# Altium schematic symbol library TMUX1574RSVR.SchLib: 1 symbol
Pins are listed as number, name and electrical type; pins without a type are passive.

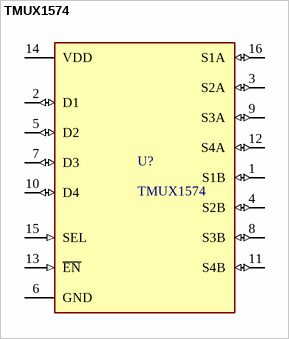
[diagram p0: symbol TMUX1574]

## TMUX1574
designator U?
footprint UQFN-16
pins: 1 S1B (io), 2 D1 (io), 3 S2A (io), 4 S2B (io), 5 D2 (io), 6 GND (power), 7 D3 (io), 8 S3B (io), 9 S3A (io), 10 D4 (io), 11 S4B (io), 12 S4A (io), 13 ~{EN} (in), 14 VDD (power), 15 SEL (in), 16 S1A (io)